# Altium schematic symbol library SCH - HEADERS - Samtec - PHT.SchLib: 7 symbols
Pins are listed as number, name and electrical type; pins without a type are passive.

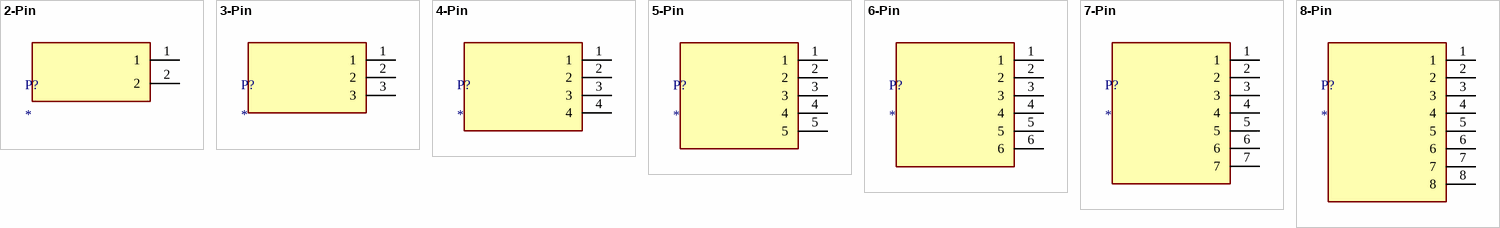
[diagram p0: symbols 2-Pin to 8-Pin]

## 2-Pin
designator P?
Connector
pins: 1, 2

## 3-Pin
designator P?
Connector
pins: 1, 2, 3

## 4-Pin
designator P?
Connector
pins: 1, 2, 3, 4

## 5-Pin
designator P?
Connector
pins: 1, 2, 3, 4, 5

## 6-Pin
designator P?
Connector
pins: 1, 2, 3, 4, 5, 6

## 7-Pin
designator P?
Connector
pins: 1, 2, 3, 4, 5, 6, 7

## 8-Pin
designator P?
Connector
pins: 1, 2, 3, 4, 5, 6, 7, 8